# Altium footprint library RESC50110X70N.PcbLib: 1 footprints
Each footprint in its own frame and in the unit in brackets; x right, y up, seen from the top. Pads: shape width x height; smd on the part's side, far side on the other; paste and mask are expansions set on the pad; w line width, h text height; cw(c..) or ccw(c..) is an arc to the next point about the centre after c.
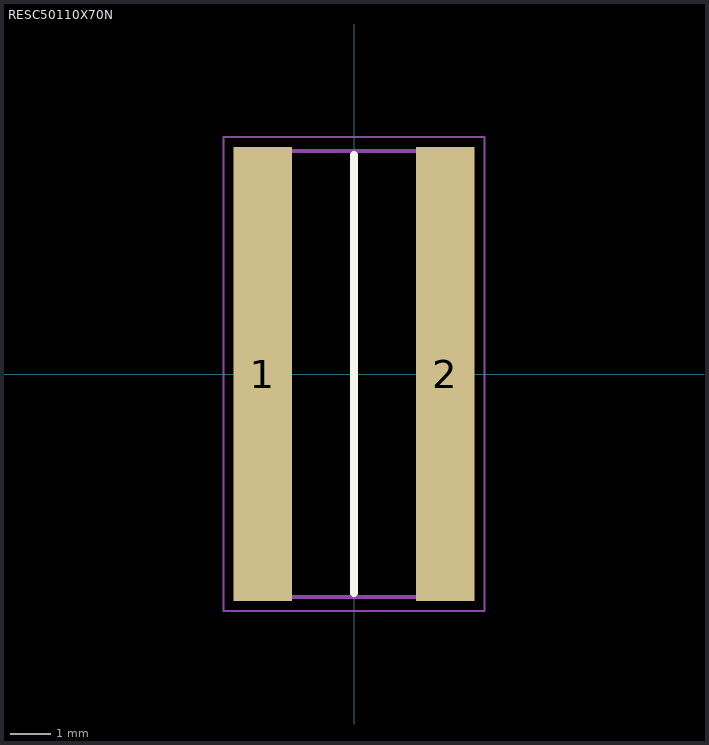
[diagram p0: the footprint, top view; thin cyan lines are the x and y axes]

## RESC50110X70N [mm]
pads (2):
  rect 1.45x11.2 smd: 1(-2.25,0) 2(2.25,0)
Top Overlay:
  lines w0.2: 0,-5.4 0,5.4
Mechanical 15:
  lines w0.1: -2.5,-5.5 2.5,-5.5 2.5,5.5 -2.5,5.5 -2.5,-5.5
Mechanical 20:
  lines w0.05: -3.225,-5.85 3.225,-5.85 3.225,5.85 -3.225,5.85 -3.225,-5.85